# Altium integrated library Attend Card CompactFlash.IntLib: 5 symbols
Pins are listed as number, name and electrical type; pins without a type are passive.

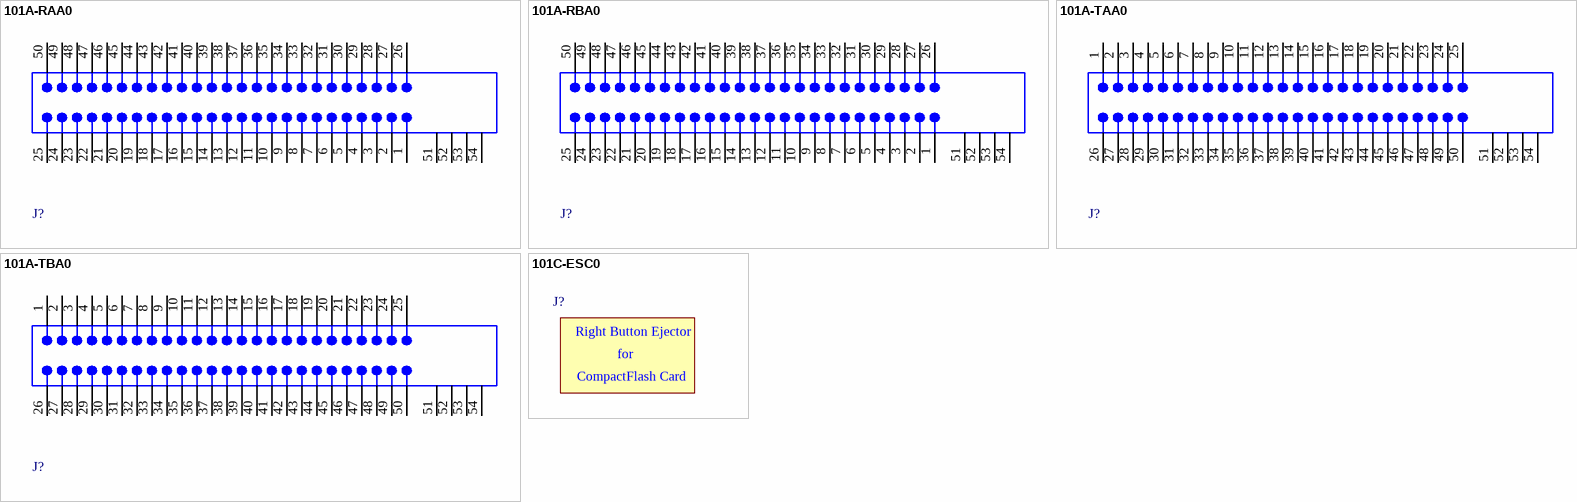
[diagram p0: symbols 101A-RAA0 to 101C-ESC0]

## 101A-RAA0
designator J?
CompactFlash Slot Header, Type I; Surface Mount; 50-Position; Reverse Mount; PCB_Layout: Complies with manufacturer's recommendation.; Published: 6-Jun-2005; DatasheetDocument: Jun-2003; PackageDocument: Jun-2003; PackageReference: 101A-REV; Publisher: Altium Limited; PadDimensions: Follow nominal values.; ComponentLink1Description: Manufacturer Link; ComponentLink1URL: http://www.attend.com.tw/; ComponentLink2Description: Datasheet; ComponentLink2URL: http://www.attend.com.tw/pdf/101A-RAX0-(I).pdf; ComponentLink3Description: Connector; ComponentLink3URL: http://www.attend.com.tw/p4_2_1.htm
footprint 101A-REV (Connector; CompactFlash Card Header, SM; Reverse Mount; 50 Position; Right Angle; Pitch 0.635 mm)
signal-integrity model CF Card Header
pins: 1 "Power", 2 "General", 3 "General", 4 "General", 5 "General", 6 "General", 7 "General", 8 "General", 9 "General", 10 "General", 11 "General", 12 "General", 13 "Power", 14 "General", 15 "General", 16 "General", 17 "General", 18 "General", 19 "General", 20 "General", 21 "General", 22 "General", 23 "General", 24 "General", 25 "Detect", 26 "Detect", 27 "General", 28 "General", 29 "General", 30 "General", 31 "General", 32 "General", 33 "General", 34 "General", 35 "General", 36 "General", 37 "General", 38 "Power", 39 "General", 40 "General", 41 "General", 42 "General", 43 "General", 44 "General", 45 "General", 46 "General", 47 "General", 48 "General", 49 "General", 50 "Power", 51 MH1 "Through for M2", 52 MH2 "Through for M2", 53 MH3, 54 MH4

## 101A-RBA0
designator J?
CompactFlash Slot Header, Type I; Surface Mount; 50-Position; Reverse Mount; PCB_Layout: Complies with manufacturer's recommendation.; Published: 6-Jun-2005; DatasheetDocument: Jun-2003; PackageDocument: Jun-2003; PackageReference: 101A-REV; Publisher: Altium Limited; PadDimensions: Follow nominal values.; ComponentLink1Description: Manufacturer Link; ComponentLink1URL: http://www.attend.com.tw/; ComponentLink2Description: Datasheet; ComponentLink2URL: http://www.attend.com.tw/pdf/101A-RAX0-(I).pdf; ComponentLink3Description: Connector; ComponentLink3URL: http://www.attend.com.tw/p4_2_1.htm
footprint 101A-REV (Connector; CompactFlash Card Header, SM; Reverse Mount; 50 Position; Right Angle; Pitch 0.635 mm)
signal-integrity model CF Card Header
pins: 1 "Power", 2 "General", 3 "General", 4 "General", 5 "General", 6 "General", 7 "General", 8 "General", 9 "General", 10 "General", 11 "General", 12 "General", 13 "Power", 14 "General", 15 "General", 16 "General", 17 "General", 18 "General", 19 "General", 20 "General", 21 "General", 22 "General", 23 "General", 24 "General", 25 "Detect", 26 "Detect", 27 "General", 28 "General", 29 "General", 30 "General", 31 "General", 32 "General", 33 "General", 34 "General", 35 "General", 36 "General", 37 "General", 38 "Power", 39 "General", 40 "General", 41 "General", 42 "General", 43 "General", 44 "General", 45 "General", 46 "General", 47 "General", 48 "General", 49 "General", 50 "Power", 51 MH1 "Through for M2", 52 MH2 "Through for M2", 53 MH3, 54 MH4

## 101A-TAA0
designator J?
CompactFlash Slot Header, Type I; Surface Mount; 50-Position; Standard Mount; PCB_Layout: Complies with manufacturer's recommendation.; Published: 6-Jun-2005; DatasheetDocument: May-2002; PackageDocument: May-2002; PackageReference: 101A-TOP; Publisher: Altium Limited; PadDimensions: Follow nominal values.; ComponentLink1Description: Manufacturer Link; ComponentLink1URL: http://www.attend.com.tw/; ComponentLink2Description: Datasheet; ComponentLink2URL: http://www.attend.com.tw/pdf/101A-TAA0.pdf; ComponentLink3Description: Connector; ComponentLink3URL: http://www.attend.com.tw/p4_2_1.htm
footprint 101A-TOP (Connector; CompactFlash Card Header, SM; Standard Mount; 50 Position; Right Angle; Pitch 0.635 mm)
signal-integrity model CF Card Header
pins: 1 "Power", 2 "General", 3 "General", 4 "General", 5 "General", 6 "General", 7 "General", 8 "General", 9 "General", 10 "General", 11 "General", 12 "General", 13 "Power", 14 "General", 15 "General", 16 "General", 17 "General", 18 "General", 19 "General", 20 "General", 21 "General", 22 "General", 23 "General", 24 "General", 25 "Detect", 26 "Detect", 27 "General", 28 "General", 29 "General", 30 "General", 31 "General", 32 "General", 33 "General", 34 "General", 35 "General", 36 "General", 37 "General", 38 "Power", 39 "General", 40 "General", 41 "General", 42 "General", 43 "General", 44 "General", 45 "General", 46 "General", 47 "General", 48 "General", 49 "General", 50 "Power", 51 MH1 "Through for M2", 52 MH2 "Through for M2", 53 MH3, 54 MH4

## 101A-TBA0
designator J?
CompactFlash Slot Header, Type I; Surface Mount; 50-Position; Standard Mount; PCB_Layout: Complies with manufacturer's recommendation.; Published: 6-Jun-2005; DatasheetDocument: May-2002; PackageDocument: May-2002; PackageReference: 101A-TOP; Publisher: Altium Limited; PadDimensions: Follow nominal values.; ComponentLink1Description: Manufacturer Link; ComponentLink1URL: http://www.attend.com.tw/; ComponentLink2Description: Datasheet; ComponentLink2URL: http://www.attend.com.tw/pdf/101A-TAA0.pdf; ComponentLink3Description: Connector; ComponentLink3URL: http://www.attend.com.tw/p4_2_1.htm
footprint 101A-TOP (Connector; CompactFlash Card Header, SM; Standard Mount; 50 Position; Right Angle; Pitch 0.635 mm)
signal-integrity model CF Card Header
pins: 1 "Power", 2 "General", 3 "General", 4 "General", 5 "General", 6 "General", 7 "General", 8 "General", 9 "General", 10 "General", 11 "General", 12 "General", 13 "Power", 14 "General", 15 "General", 16 "General", 17 "General", 18 "General", 19 "General", 20 "General", 21 "General", 22 "General", 23 "General", 24 "General", 25 "Detect", 26 "Detect", 27 "General", 28 "General", 29 "General", 30 "General", 31 "General", 32 "General", 33 "General", 34 "General", 35 "General", 36 "General", 37 "General", 38 "Power", 39 "General", 40 "General", 41 "General", 42 "General", 43 "General", 44 "General", 45 "General", 46 "General", 47 "General", 48 "General", 49 "General", 50 "Power", 51 MH1 "Through for M2", 52 MH2 "Through for M2", 53 MH3, 54 MH4

## 101C-ESC0
designator J?  (mechanical)
Right Button Ejector for CompactFlash Slot Header, Type II; Surface Mount; Published: 6-Jun-2005; DatasheetDocument: Jan-2003; PackageDocument: Jan-2003; PackageReference: 101C-ES; Publisher: Altium Limited; ComponentLink1Description: Manufacturer Link; ComponentLink1URL: http://www.attend.com.tw/; ComponentLink2Description: Datasheet; ComponentLink2URL: http://www.attend.com.tw/pdf/101C-ESXX(type%202).pdf; ComponentLink3Description: Connector; ComponentLink3URL: http://www.attend.com.tw/p4_2_1.htm
footprint 101C-ES (Ejector for CompactFlash Card Header, Type II; Right Button)
signal-integrity model CF Card Header
text: Right Button Ejector; for; CompactFlash Card